# Altium schematic symbol library Crystal_50Mhz_active.SchLib: 1 symbol
Pins are listed as number, name and electrical type; pins without a type are passive.

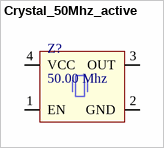
[diagram p0: symbol Crystal_50Mhz_active]

## Crystal_50Mhz_active
designator Z?, comment 50.00 Mhz
footprint 50.00Mhz active quartz
pins: 1 EN, 2 GND, 3 OUT, 4 VCC